# EAGLE library part WE-PPTI_1512 (library WE-PPTI)
WE-PPTI Push-Pull Transformers Characteristics Small size Surface mount Low profile Operating temp: -40°C to 125°C Functional or Reinforced Insulation Applications Isolated interface power supply for CAN, RS-485, RS-422, RS-232, SPI, I2C, lower-power LAN Industrial automation Process control Medical equipment PLC analog and digital I/O modules Isolated gate driver power supplies AC motor drives Uninterruptible power supplies (UPS) Solar inverters Polyphase energy meters Protection relays and IEDs <https://www.we-online.com/components/media/o715993v209%20Family-PPTI.jpg> Details see: www.we-online.com/en/components/products/WE-PPTI <www.we-online.com/catalog/WE-PPTI/?utm_source=eagle_model&utm_medium=description_link&utm_campaign=eisos_eagle> Created by Ella Wu 2023-02-20 2023 (C) Wurth Elektronik
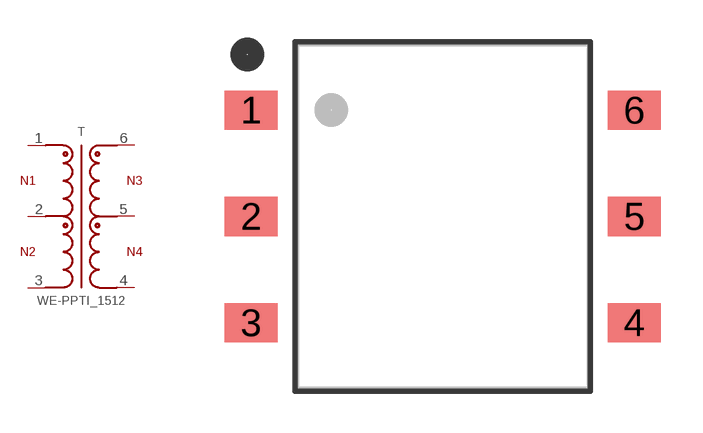
[diagram p4: symbol with the pads of WE-PPTI_1512_L15.41W12.32H11.89; footprint WE-PPTI_1512_L15.41W12.32H11.89]

Designator prefix T

## WE-PPTI_1512_750315240_L15.41W12.32H11.89 (DATASHEET-URL: https://www.we-online.com/redexpert/spec/750315240?ae; FSWITCH: 150kHz; HEIGHT: 11.89mm; IOUT1: 1000mA; L: 440uH; LENGTH: 15.41mm; MOUNT: SMT; N: 1:1.1; PART-NUMBER: 750315240; SIZE: 1512; TYPE-OF-INSULATION: Reinforced; VALUE: 750315240; VIN: 5 V (DC); VOLTAGE-TIME: 46Vus; VOUT1: 5V; VT: 5000 V(AC); WIDTH: 12.32mm), WE-PPTI_1512_750316031_L15.41W12.32H11.89 (DATASHEET-URL: https://www.we-online.com/redexpert/spec/750316031?ae; FSWITCH: 150kHz; HEIGHT: 11.89mm; IOUT1: 900mA; L: 370uH; LENGTH: 15.41mm; MOUNT: SMT; N: 1:1.75; PART-NUMBER: 750316031; SIZE: 1512; TYPE-OF-INSULATION: Reinforced; VALUE: 750316031; VIN: 3.3 V (DC); VOLTAGE-TIME: 40Vus; VOUT1: 3.3V; VT: 5000 V(AC); WIDTH: 12.32mm), WE-PPTI_1512_750316032_L15.41W12.32H11.89 (DATASHEET-URL: https://www.we-online.com/redexpert/spec/750316032?ae; FSWITCH: 150kHz; HEIGHT: 11.89mm; IOUT1: 900mA; L: 370uH; LENGTH: 15.41mm; MOUNT: SMT; N: 1:2; PART-NUMBER: 750316032; SIZE: 1512; TYPE-OF-INSULATION: Reinforced; VALUE: 750316032; VIN: 3.3 V (DC); VOLTAGE-TIME: 40Vus; VOUT1: 5V; VT: 5000 V(AC); WIDTH: 12.32mm), WE-PPTI_1512_750316033_L15.41W12.32H11.89 (DATASHEET-URL: https://www.we-online.com/redexpert/spec/750316033?ae; FSWITCH: 150kHz; HEIGHT: 11.89mm; IOUT1: 1000mA; L: 370uH; LENGTH: 15.41mm; MOUNT: SMT; N: 1.3:1; PART-NUMBER: 750316033; SIZE: 1512; TYPE-OF-INSULATION: Reinforced; VALUE: 750316033; VIN: 5 V (DC); VOLTAGE-TIME: 40Vus; VOUT1: 3.3V; VT: 5000 V(AC); WIDTH: 12.32mm), WE-PPTI_1512_750319927_L15.41W12.32H11.89 (DATASHEET-URL: https://www.we-online.com/redexpert/spec/750319927?ae; FSWITCH: 150kHz; HEIGHT: 11.89mm; IOUT1: 1700mA; L: 570uH; LENGTH: 15.41mm; MOUNT: SMT; N: 2:1; PART-NUMBER: 750319927; SIZE: 1512; TYPE-OF-INSULATION: Reinforced; VALUE: 750319927; VIN: 4.5 V (DC); VOLTAGE-TIME: 50Vus; VOUT1: 2.5V; VT: 5000 V(AC); WIDTH: 12.32mm)  [WE-PPTI_1512_L15.41W12.32H11.89]
1  1  pas
2  2  pas
3  3  pas
4  4  pas
5  5  pas
6  6  pas

## Footprint WE-PPTI_1512_L15.41W12.32H11.89 (pad centres in mm)
WE-PPTI Push-Pull Transformers Size: 1210, SMT, 6pins LXWXH=15.41X12.32X11.89mm
smd 1.9 x 1.4: 1 -6.87,3.81; 2 -6.87,0; 3 -6.87,-3.81; 4 6.87,-3.81; 5 6.87,0; 6 6.87,3.81